# EAGLE library part SA58637 (library Audio-Power-amlifier V.2.0)
The SA58637 is a two-channel audio amplifier in an HVQFN20 package. It provides power output of 2.2 W per channel with an 8 W load at 9 V supply. The internal circuit is comprised of two Bridge-Tied Load (BTL) amplifiers with a complementary PNP-NPN output stage and standby/mute logic. The SA58637 is housed in a 20-pin HVQFN package, which has an exposed die attach paddle enabling reduced thermal resistance and increased power dissipation.
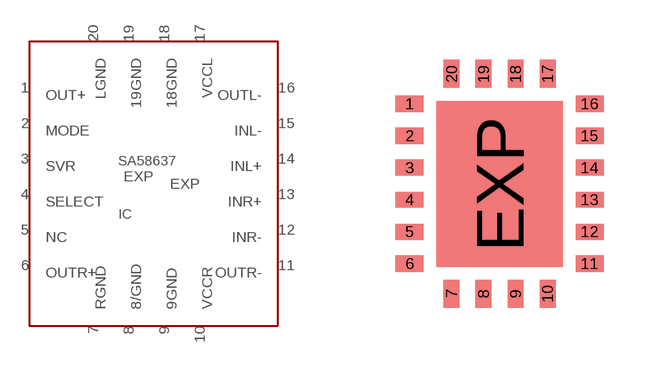
[diagram p93: symbol with the pads of HVQFN20_6X5X0,85; footprint HVQFN20_6X5X0,85]

Designator prefix IC

## SA58637  [HVQFN20_6X5X0,85]
1  OUT+  out
2  MODE
3  SVR
4  SELECT
5  NC  nc
6  OUTR+  out
7  RGND  pwr
8  8/GND  pwr
9  9GND  pwr
10  VCCR  pwr
11  OUTR-  out
12  INR-  in
13  INR+  in
14  INL+  in
15  INL-  in
16  OUTL-  out
17  VCCL  pwr
18  18GND  pwr
19  19GND  pwr
20  LGND  pwr
EXP  EXP  pwr

## Footprint HVQFN20_6X5X0,85 (pad centres in mm)
HVQFN20: plastic thermal enhanced very thin quad flat package; no leads; 20 terminals; body 6 x 5 x 0.85 mm SOT910-1
smd 0.7 x 0.4: 1 -2.25,2; 2 -2.25,1.2; 3 -2.25,0.4; 4 -2.25,-0.4; 5 -2.25,-1.2; 6 -2.25,-2; 11 2.25,-2; 12 2.25,-1.2; 13 2.25,-0.4; 14 2.25,0.4; 15 2.25,1.2; 16 2.25,2
smd 0.4 x 0.7: 7 -1.2,-2.75; 8 -0.4,-2.75; 9 0.4,-2.75; 10 1.2,-2.75; 17 1.2,2.75; 18 0.4,2.75; 19 -0.4,2.75; 20 -1.2,2.75
smd 3.15 x 4.15: EXP 0,-0.01